# EAGLE library part ARJ-169 (library ruark2)
1 Port RJ45 with USB A Magjack Connector Through Hole 10/100 Base-T
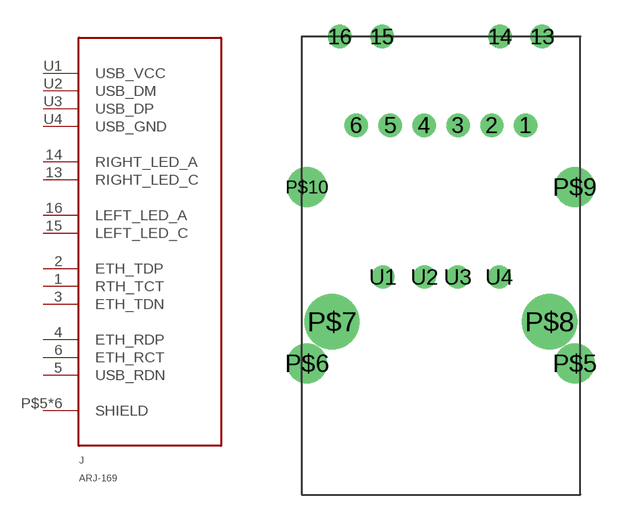
[diagram p87: symbol with the pads of ARJ-169; footprint ARJ-169]

Designator prefix J

## ARJ-169 (PARTNO: 535-13147-ND)  [ARJ-169]
1  RTH_TCT
2  ETH_TDP
3  ETH_TDN
4  ETH_RDP
5  USB_RDN
6  ETH_RCT
13  RIGHT_LED_C
14  RIGHT_LED_A
15  LEFT_LED_C
16  LEFT_LED_A
P$5  SHIELD
P$6  SHIELD
P$7  SHIELD
P$8  SHIELD
P$9  SHIELD
P$10  SHIELD
U1  USB_VCC
U2  USB_DM
U3  USB_DP
U4  USB_GND

## Footprint ARJ-169 (pad centres in mm)
drill 0.9: 1 5.1,14.35; 2 3.06,14.35; 3 1.02,14.35; 4 -1.02,14.35; 5 -3.06,14.35; 6 -5.1,14.35; 13 6.095,19.69; 14 3.555,19.69; 15 -3.555,19.69; 16 -6.095,19.69; U1 -3.5,5.21; U2 -1,5.21; U3 1,5.21; U4 3.5,5.21
drill 1.6: P$5 8.065,0; P$6 -8.065,0; P$9 8.065,10.62; P$10 -8.065,10.62
drill 2.31: P$7 -6.565,2.51; P$8 6.535,2.51